# EAGLE library part MAX7315 (library 1AA_Stofer)
8 Port I2C expander with LED intensity control
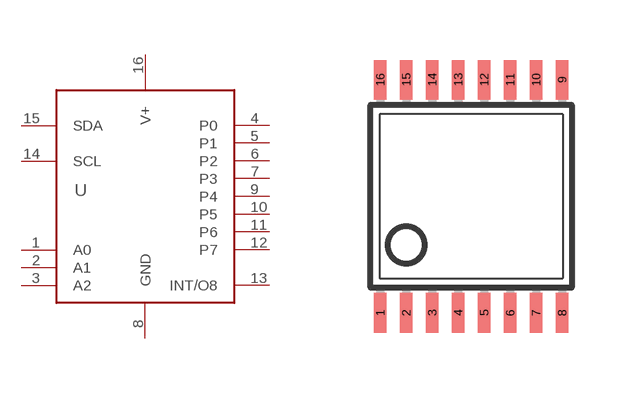
[diagram p5: symbol with the pads of TSSOP16; footprint TSSOP16]

Designator prefix -

## MAX7315  [TSSOP16]
1  A0  in
2  A1  in
3  A2  in
4  P0  oc
5  P1  oc
6  P2  oc
7  P3  oc
8  GND  pwr
9  P4  oc
10  P5  oc
11  P6  oc
12  P7  oc
13  INT/O8  oc
14  SCL
15  SDA
16  V+  pwr

## Footprint TSSOP16 (pad centres in mm)
Thin Shrink Small Outline Plastic 16 http://www.maxim-ic.com .. MAX3223-MAX3243.pdf
smd 0.305 x 0.991: 1 -2.275,-2.918; 2 -1.625,-2.918; 3 -0.975,-2.918; 4 -0.325,-2.918; 5 0.325,-2.918; 6 0.975,-2.918; 7 1.625,-2.918; 8 2.275,-2.918; 9 2.275,2.918; 10 1.625,2.918; 11 0.975,2.918; 12 0.325,2.918; 13 -0.325,2.918; 14 -0.975,2.918; 15 -1.625,2.918; 16 -2.275,2.918